# EAGLE library part STACKER (library anton)
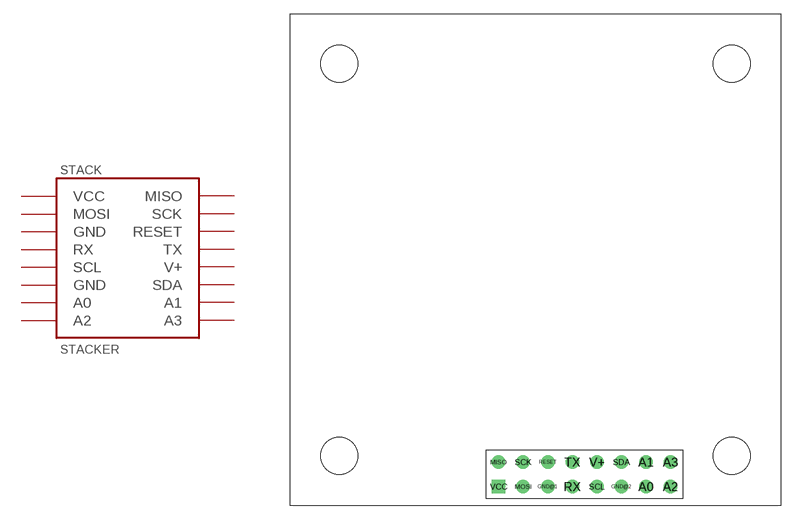
[diagram p8: symbol with the pads of STACKER; footprint STACKER]

Designator prefix STACK

## STACKER  [STACKER]
A0  A0
A1  A1
A2  A2
A3  A3
GND@1  GND
GND@2  GND
MISO  MISO
MOSI  MOSI
RESET  RESET
RX  RX
SCK  SCK
SCL  SCL
SDA  SDA
TX  TX
V+  V+
VCC  VCC

## Footprint STACKER (pad centres in mm)
drill 0.889 round: A0 36.83,1.905; A1 36.83,4.445; A2 39.37,1.905; A3 39.37,4.445; GND@1 26.67,1.905; GND@2 34.29,1.905; MISO 21.59,4.445; MOSI 24.13,1.905; RESET 26.67,4.445; RX 29.21,1.905; SCK 24.13,4.445; SCL 31.75,1.905; SDA 34.29,4.445; TX 29.21,4.445; V+ 31.75,4.445
drill 0.889 square: VCC 21.59,1.905
hole 3.81 at 5.08,5.08
hole 3.81 at 5.08,45.72
hole 3.81 at 45.72,45.72
hole 3.81 at 45.72,5.08